# EAGLE library part PGA2505 (library balto)
Digitally Controlled Microphone Preamplifier
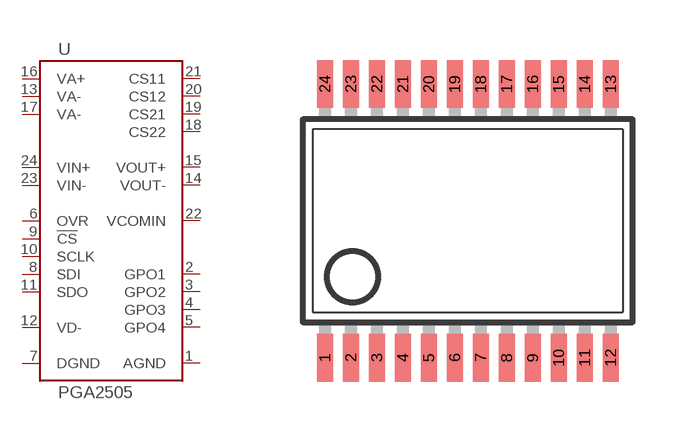
[diagram p48: symbol with the pads of SSOP24; footprint SSOP24]

Designator prefix U

## PGA2505IDB  [SSOP24]
1  AGND
2  GPO1
3  GPO2
4  GPO3
5  GPO4
6  OVR
7  DGND
8  SDI
9  !CS
10  SCLK
11  SDO
12  VD-
13  VA-
14  VOUT-
15  VOUT+
16  VA+
17  VA-
18  CS22
19  CS21
20  CS12
21  CS11
22  VCOMIN
23  VIN-
24  VIN+

## Footprint SSOP24 (pad centres in mm)
Small Shrink Outline Package SOT340-1 / JEDEC MO-150AG
smd 0.4 x 1.2: 1 -3.575,-3.42; 2 -2.925,-3.42; 3 -2.275,-3.42; 4 -1.625,-3.42; 5 -0.975,-3.42; 6 -0.325,-3.42; 7 0.325,-3.42; 8 0.975,-3.42; 9 1.625,-3.42; 10 2.275,-3.42; 11 2.925,-3.42; 12 3.575,-3.42; 13 3.575,3.42; 14 2.925,3.42; 15 2.275,3.42; 16 1.625,3.42; 17 0.975,3.42; 18 0.325,3.42; 19 -0.325,3.42; 20 -0.975,3.42; 21 -1.625,3.42; 22 -2.275,3.42; 23 -2.925,3.42; 24 -3.575,3.42